# EAGLE library part 7W00* (library 7SH)
Dual Nand
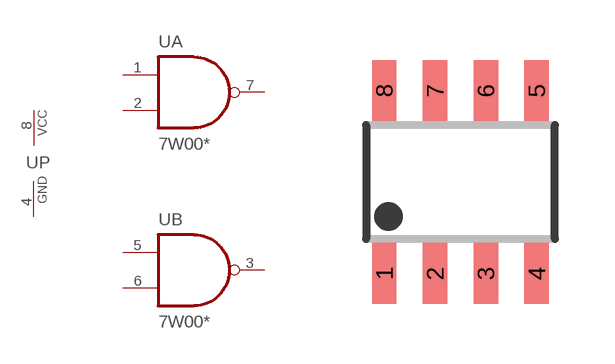
[diagram p0: symbol with the pads of FM8; footprint FM8]

Designator prefix U; gates A=GATE_NAND B=GATE_NAND P=PWRGNDV

## 7W00F  [FM8]
1  A:A  in
2  A:B  in
3  B:OUT  out
4  P:GND  pwr
5  B:A  in
6  B:B  in
7  A:OUT  out
8  P:VCC  pwr

## Footprint FM8 (pad centres in mm)
smd 0.61 x 1.524: 1 -1.905,-2.286; 2 -0.635,-2.286; 3 0.635,-2.286; 4 1.905,-2.286; 5 1.905,2.286; 6 0.635,2.286; 7 -0.635,2.286; 8 -1.905,2.286